# EAGLE library part ARDUINO (library moudle)
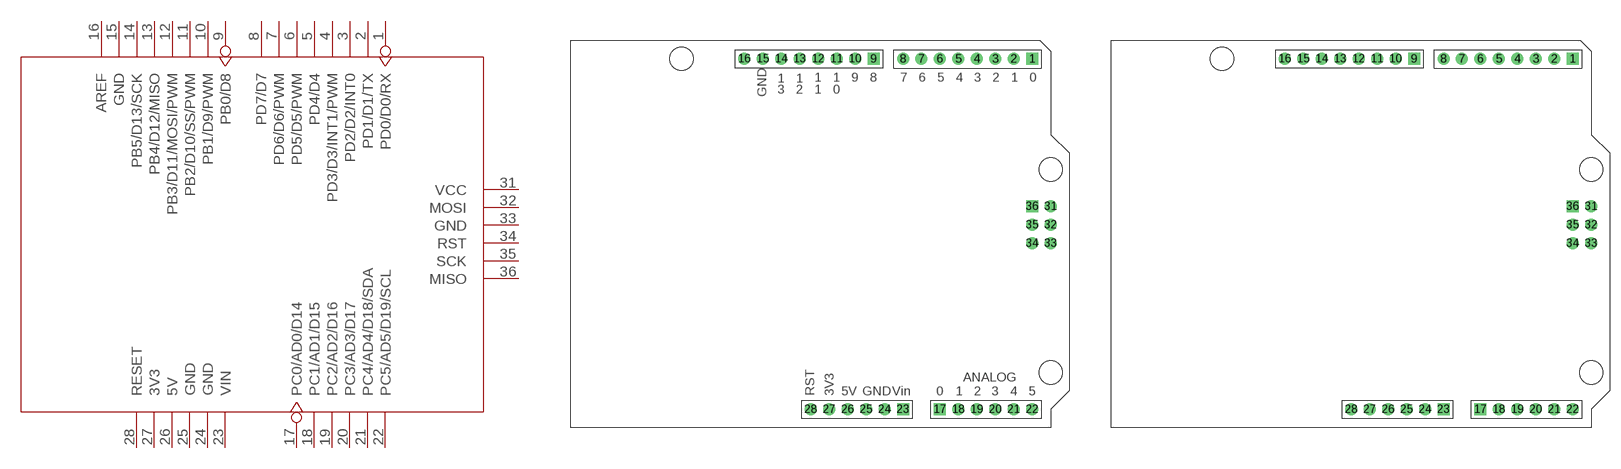
[diagram p0: symbol with the pads of ARDUINO; footprints ARDUINO, ARDUINO-W/O-SILK]

Designator prefix U

## ARDUINO'W/-SILK  [ARDUINO]
1  PD0/D0/RX
2  PD1/D1/TX
3  PD2/D2/INT0
4  PD3/D3/INT1/PWM
5  PD4/D4
6  PD5/D5/PWM
7  PD6/D6/PWM
8  PD7/D7
9  PB0/D8
10  PB1/D9/PWM
11  PB2/D10/SS/PWM
12  PB3/D11/MOSI/PWM
13  PB4/D12/MISO
14  PB5/D13/SCK
15  GND
16  AREF
17  PC0/AD0/D14
18  PC1/AD1/D15
19  PC2/AD2/D16
20  PC3/AD3/D17
21  PC4/AD4/D18/SDA
22  PC5/AD5/D19/SCL
23  VIN
24  GND
25  GND
26  5V
27  3V3
28  RESET
31  VCC
32  MOSI
33  GND
34  RST
35  SCK
36  MISO

## ARDUINO'W/O-SILK'  [ARDUINO-W/O-SILK]
Pads as for ARDUINO

## ARDUINO  [ARDUINO-ISP-SMD]
Pads as for ARDUINO

## Footprint ARDUINO (pad centres in mm)
drill 0.889 pad 1.651 square: 1 63.5,50.8; 9 41.656,50.8; 17 50.8,2.54; 23 45.72,2.54; 36 63.5,30.48
drill 0.889 pad 1.651: 2 60.96,50.8; 3 58.42,50.8; 4 55.88,50.8; 5 53.34,50.8; 6 50.8,50.8; 7 48.26,50.8; 8 45.72,50.8; 10 39.116,50.8; 11 36.576,50.8; 12 34.036,50.8; 13 31.496,50.8; 14 28.956,50.8; 15 26.416,50.8; 16 23.876,50.8; 18 53.34,2.54; 19 55.88,2.54; 20 58.42,2.54; 21 60.96,2.54; 22 63.5,2.54; 24 43.18,2.54; 25 40.64,2.54; 26 38.1,2.54; 27 35.56,2.54; 28 33.02,2.54; 31 66.04,30.48; 32 66.04,27.94; 33 66.04,25.4; 34 63.5,25.4; 35 63.5,27.94
hole 3.2 at 15.24,50.8
hole 3.2 at 66.04,35.56
hole 3.2 at 66.04,7.62

## Footprint ARDUINO-W/O-SILK (pad centres in mm)
drill 0.889 pad 1.651 square: 1 63.5,50.8; 9 41.656,50.8; 17 50.8,2.54; 23 45.72,2.54; 36 63.5,30.48
drill 0.889 pad 1.651: 2 60.96,50.8; 3 58.42,50.8; 4 55.88,50.8; 5 53.34,50.8; 6 50.8,50.8; 7 48.26,50.8; 8 45.72,50.8; 10 39.116,50.8; 11 36.576,50.8; 12 34.036,50.8; 13 31.496,50.8; 14 28.956,50.8; 15 26.416,50.8; 16 23.876,50.8; 18 53.34,2.54; 19 55.88,2.54; 20 58.42,2.54; 21 60.96,2.54; 22 63.5,2.54; 24 43.18,2.54; 25 40.64,2.54; 26 38.1,2.54; 27 35.56,2.54; 28 33.02,2.54; 31 66.04,30.48; 32 66.04,27.94; 33 66.04,25.4; 34 63.5,25.4; 35 63.5,27.94
hole 3.2 at 15.24,50.8
hole 3.2 at 66.04,35.56
hole 3.2 at 66.04,7.62

## Footprint ARDUINO-ISP-SMD (pad centres in mm)
drill 0.889 pad 1.651 square: 1 63.5,50.8; 9 41.656,50.8; 17 50.8,2.54; 23 45.72,2.54
drill 0.889 pad 1.651: 2 60.96,50.8; 3 58.42,50.8; 4 55.88,50.8; 5 53.34,50.8; 6 50.8,50.8; 7 48.26,50.8; 8 45.72,50.8; 10 39.116,50.8; 11 36.576,50.8; 12 34.036,50.8; 13 31.496,50.8; 14 28.956,50.8; 15 26.416,50.8; 16 23.876,50.8; 18 53.34,2.54; 19 55.88,2.54; 20 58.42,2.54; 21 60.96,2.54; 22 63.5,2.54; 24 43.18,2.54; 25 40.64,2.54; 26 38.1,2.54; 27 35.56,2.54; 28 33.02,2.54
smd 2.286 x 1.524 bottom: 31 67.183,30.48; 32 67.183,27.94; 33 67.183,25.4; 34 62.357,25.4; 35 62.357,27.94; 36 62.357,30.48
hole 3.2 at 15.24,50.8
hole 3.2 at 66.04,35.56
hole 3.2 at 66.04,7.62